# Altium footprint library Sangjian_Pcb.PcbLib: 434 footprints (part 17 of 28)
Each footprint in its own frame and in the unit in brackets; x right, y up, seen from the top. Pads: shape width x height; smd on the part's side, far side on the other; paste and mask are expansions set on the pad; w line width, h text height; cw(c..) or ccw(c..) is an arc to the next point about the centre after c.
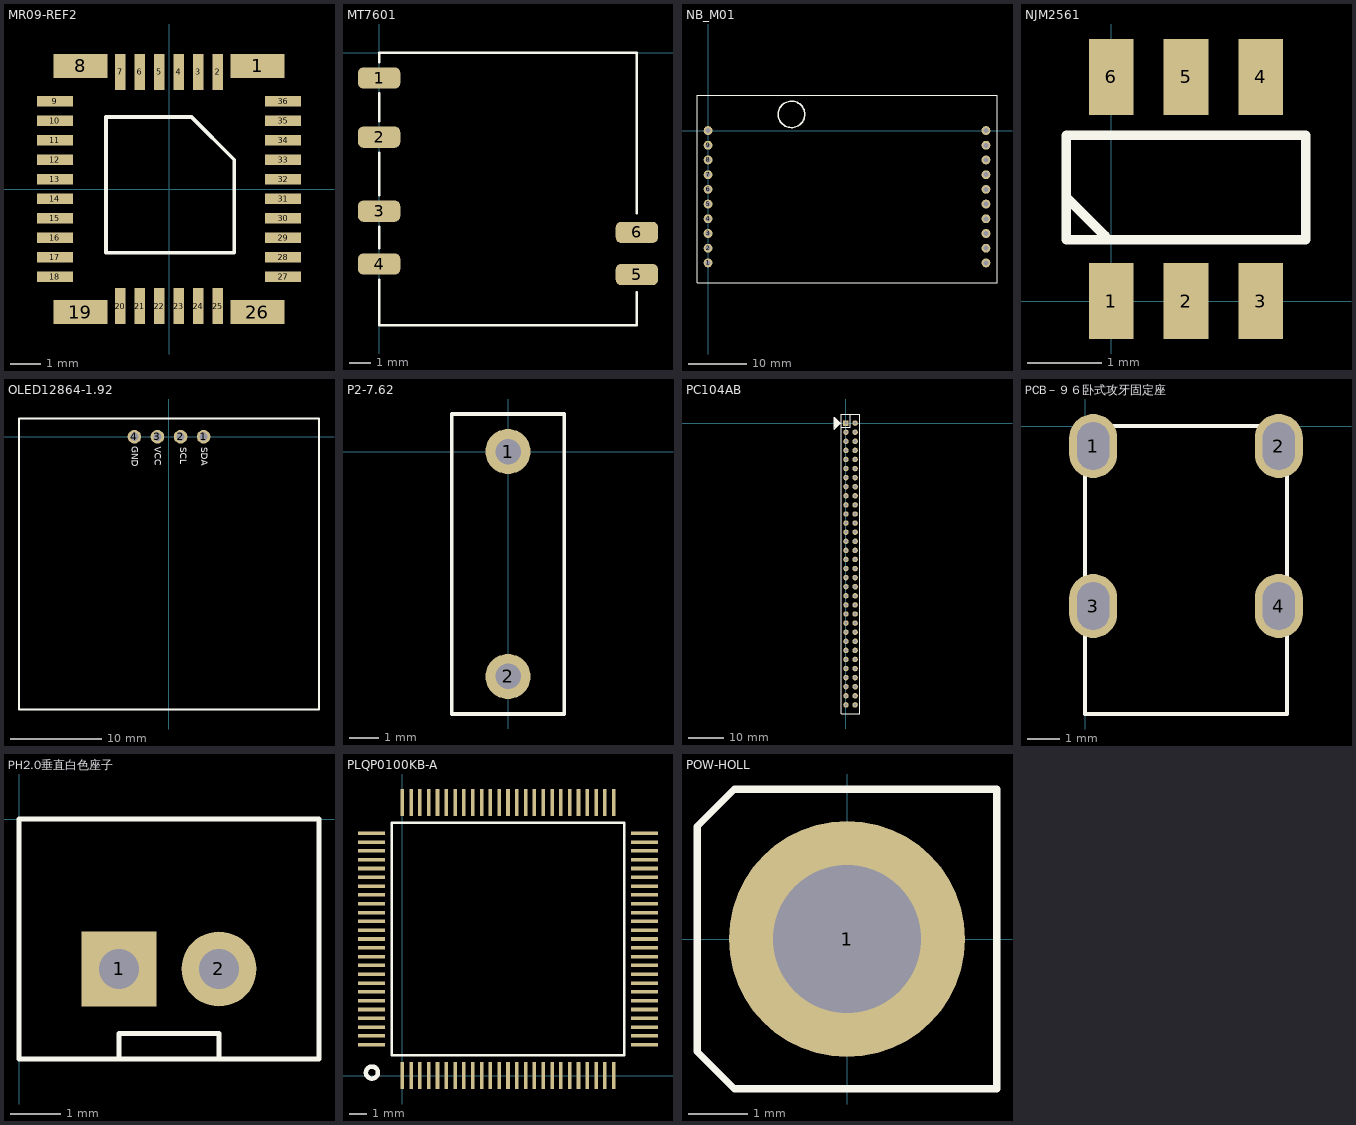
[diagram p16: the footprints below, top view; thin cyan lines are the x and y axes]

## MR09-REF2 [mm]
pads (36):
  rect 1.8x0.8 smd: 1(2.95,4.1) 8(-2.95,4.1) 19(-2.95,-4.1) 26(2.95,-4.1)
  rect 0.35x1.2 smd: 2(1.625,3.9) 3(0.975,3.9) 4(0.325,3.9) 5(-0.325,3.9) 6(-0.975,3.9) 7(-1.625,3.9) 20(-1.625,-3.9) 21(-0.975,-3.9) 22(-0.325,-3.9) 23(0.325,-3.9) 24(0.975,-3.9) 25(1.625,-3.9)
  rect 1.2x0.35 smd: 9(-3.8,2.925) 10(-3.8,2.275) 11(-3.8,1.625) 12(-3.8,0.975) 13(-3.8,0.325) 14(-3.8,-0.325) 15(-3.8,-0.975) 16(-3.8,-1.625) 17(-3.8,-2.275) 18(-3.8,-2.925) 27(3.8,-2.925) 28(3.8,-2.275) 29(3.8,-1.625) 30(3.8,-0.975) 31(3.8,-0.325) 32(3.8,0.325) 33(3.8,0.975) 34(3.8,1.625) 35(3.8,2.275) 36(3.8,2.925)
Top Overlay:
  lines w0.127: -2.1,-2.125 2.175,-2.125 2.175,0.975 0.75,2.4 -2.1,2.4 -2.1,-2.125

## MT7601 [mm]
pads (6):
  rrect50% 2x1 smd: 1(0,-1.201) 2(0,-4) 3(0,-7.501) 4(0,-10) 5(12.192,-10.501) 6(12.192,-8.501)
Top Overlay:
  lines w0.127: 0,-10.75 0,-12.903 12.192,-12.903 12.192,-11.35 ; 0,-9.25 0,-8.25 ; 0,-6.75 0,-4.75 ; 0,-3.25 0,-1.925 ; 0,-0.45 0,0 12.192,0 12.192,-7.6

## NB_M01 [mil]
pads (20):
  round 60 hole 34: 1(0,-900) 2(0,-800) 3(0,-700) 4(0,-600) 5(0,-500) 6(0,-400) 7(0,-300) 8(0,-200) 9(0,-100) 10(0,0) 11(1890,-900) 12(1890,-800) 13(1890,-700) 14(1890,-600) 15(1890,-500) 16(1890,-400) 17(1890,-300) 18(1890,-200) 19(1890,-100) 20(1890,0)
Top Overlay:
  circle w10: c567.79,110 r90.21
  lines w5: -75,-1035 1965,-1035 1965,240 -75,240 -75,-1035

## NJM2561 [mm]
pads (6):
  rect 0.6x1.016 smd: 1(0,0) 2(1,0) 3(2,0) 4(2,3) 5(1,3) 6(0,3)
Top Overlay:
  lines w0.127: -0.584,1.372 -0.084,0.871 ; -0.6,0.822 -0.6,2.219 2.6,2.219 2.6,0.822 -0.6,0.822

## OLED12864-1.92 [mm]
pads (4):
  round 1.5 hole 0.9: 1(3.81,0) 2(1.27,0) 3(-1.27,0) 4(-3.81,0)
Top Overlay:
  lines w0.2: 16.5,-30 16.5,-25.8
  lines w0.254: 16.5,-30 -16.5,-30 -16.5,2 16.5,2 16.5,-25.8
  text "SDA" at 3.287,-1.175 h1.27
  text "SCL" at 0.95,-1.15 h1.27
  text "VCC" at -1.819,-1.099 h1.27
  text "GND" at -4.384,-1.073 h1.27

## P2-7.62 [mil]
pads (2):
  round 60 hole 34: 1(0,0) 2(0,-300)
Top Overlay:
  lines w5: -75,-350 75,-350 75,50 -75,50 -75,-350

## PC104AB [mil]
pads (64):
  rect 60x60 hole 34: 1(0,0)
  round 60 hole 34: 2(100,0) 3(0,-100) 4(100,-100) 5(0,-200) 6(100,-200) 7(0,-300) 8(100,-300) 9(0,-400) 10(100,-400) 11(0,-500) 12(100,-500) 13(0,-600) 14(100,-600) 15(0,-700) 16(100,-700) 17(0,-800) 18(100,-800) 19(0,-900) 20(100,-900) 21(0,-1000) 22(100,-1000) 23(0,-1100) 24(100,-1100) 25(0,-1200) 26(100,-1200) 27(0,-1300) 28(100,-1300) 29(0,-1400) 30(100,-1400) 31(0,-1500) 32(100,-1500) 33(0,-1600) 34(100,-1600) 35(0,-1700) 36(100,-1700) 37(0,-1800) 38(100,-1800) 39(0,-1900) 40(100,-1900) 41(0,-2000) 42(100,-2000) 43(0,-2100) 44(100,-2100) 45(0,-2200) 46(100,-2200) 47(0,-2300) 48(100,-2300) 49(0,-2400) 50(100,-2400) 51(0,-2500) 52(100,-2500) 53(0,-2600) 54(100,-2600) 55(0,-2700) 56(100,-2700) 57(0,-2800) 58(100,-2800) 59(0,-2900) 60(100,-2900) 61(0,-3000) 62(100,-3000) 63(0,-3100) 64(100,-3100)
Top Overlay:
  lines w10: -127.36,-43.64 -118.14,-52.86 ; -127.36,-33.64 -113.94,-47.06 ; -127.36,-21.64 -109.94,-39.06 ; -127.36,-10.64 -102.36,-35.64 ; -127.36,2.36 -97.94,-27.06 ; -127.36,14.36 -89.94,-23.06 ; -127.36,26.36 -82.94,-18.06 ; -127.36,37.36 -77.94,-12.06 ; -127.36,50.36 -72.94,-4.06 ; -50,-48 49,-48 49,100 ; -127.36,-65.06 -63.36,-1.06 -127.36,62.94 -127.36,-65.06 ; -50,-3200 -50,100 150,100 150,-3200 -50,-3200

## PCBComponent_1 [mm]

## PCBComponent_1 - duplicate [mm]

## PCBComponent_1 - duplicate1 [mm]

## PCBComponent_1 - duplicate2 [mm]

## PCBComponent_1 - duplicate3 [mm]

## PCB－９６卧式攻牙固定座 [mm]
pads (4):
  oval 1.5x2 hole 1 slot 1.5 at 90 deg: 1(0.25,-0.625) 2(6.05,-0.625) 3(0.25,-5.625) 4(6.05,-5.625)
Top Overlay:
  lines w0.127: 6.3,-0.025 6.3,-9 0,-9 0,0 6.3,0

## PH2.0垂直白色座子 [mm]
pads (2):
  rect 1.5x1.5 hole 0.8: 1(2,-3)
  round 1.5 hole 0.8: 2(4,-3)
Top Overlay:
  lines w0.1: 2,-4.775 2,-4.293 4,-4.293 4,-4.754 ; 0,-4.8 0,0 6,0 6,-4.8 0,-4.8

## PLQP0100KB-A [mil]
pads (100):
  rect 8x60 smd: 1(0,0) 2(19.68,0) 3(39.37,0) 4(59.05,0) 5(78.74,0) 6(98.42,0) 7(118.11,0) 8(137.79,0) 9(157.48,0) 10(177.16,0) 11(196.85,0) 12(216.53,0) 13(236.22,0) 14(255.91,0) 15(275.59,0) 16(295.28,0) 17(314.96,0) 18(334.65,0) 19(354.33,0) 20(374.02,0) 21(393.7,0) 22(413.39,0) 23(433.07,0) 24(452.76,0) 25(472.44,0) 51(472.44,610.24) 52(452.76,610.24) 53(433.07,610.24) 54(413.39,610.24) 55(393.7,610.24) 56(374.02,610.24) 57(354.33,610.24) 58(334.65,610.24) 59(314.96,610.24) 60(295.28,610.24) 61(275.59,610.24) 62(255.91,610.24) 63(236.22,610.24) 64(216.53,610.24) 65(196.85,610.24) 66(177.16,610.24) 67(157.48,610.24) 68(137.79,610.24) 69(118.11,610.24) 70(98.42,610.24) 71(78.74,610.24) 72(59.05,610.24) 73(39.37,610.24) 74(19.68,610.24) 75(0,610.24)
  rect 60x8 smd: 26(541.34,68.9) 27(541.34,88.58) 28(541.34,108.27) 29(541.34,127.95) 30(541.34,147.64) 31(541.34,167.32) 32(541.34,187.01) 33(541.34,206.69) 34(541.34,226.38) 35(541.34,246.06) 36(541.34,265.75) 37(541.34,285.43) 38(541.34,305.12) 39(541.34,324.8) 40(541.34,344.49) 41(541.34,364.17) 42(541.34,383.86) 43(541.34,403.54) 44(541.34,423.23) 45(541.34,442.91) 46(541.34,462.6) 47(541.34,482.28) 48(541.34,501.97) 49(541.34,521.65) 50(541.34,541.34) 76(-68.9,541.34) 77(-68.9,521.65) 78(-68.9,501.97) 79(-68.9,482.28) 80(-68.9,462.6) 81(-68.9,442.91) 82(-68.9,423.23) 83(-68.9,403.54) 84(-68.9,383.86) 85(-68.9,364.17) 86(-68.9,344.49) 87(-68.9,324.8) 88(-68.9,305.12) 89(-68.9,285.43) 90(-68.9,265.75) 91(-68.9,246.06) 92(-68.9,226.38) 93(-68.9,206.69) 94(-68.9,187.01) 95(-68.9,167.32) 96(-68.9,147.64) 97(-68.9,127.95) 98(-68.9,108.27) 99(-68.9,88.58) 100(-68.9,68.9)
Top Overlay:
  circle w10: c-67.82,6.71 r13.45
  lines w5: -23.62,45.28 -23.62,564.96 496.06,564.96 496.06,45.28 -23.62,45.28

## POW-HOLL [mm]
pads (1):
  round 4 hole 2.5: 1(0,0)
Top Overlay:
  lines w0.127: -2.54,-1.905 -2.54,1.905 -1.905,2.54 2.54,2.54 2.54,-2.54 -1.905,-2.54 -2.54,-1.905